# Altium schematic symbol library TH Connectors.SchLib: 74 symbols
Pins are listed as number, name and electrical type; pins without a type are passive.

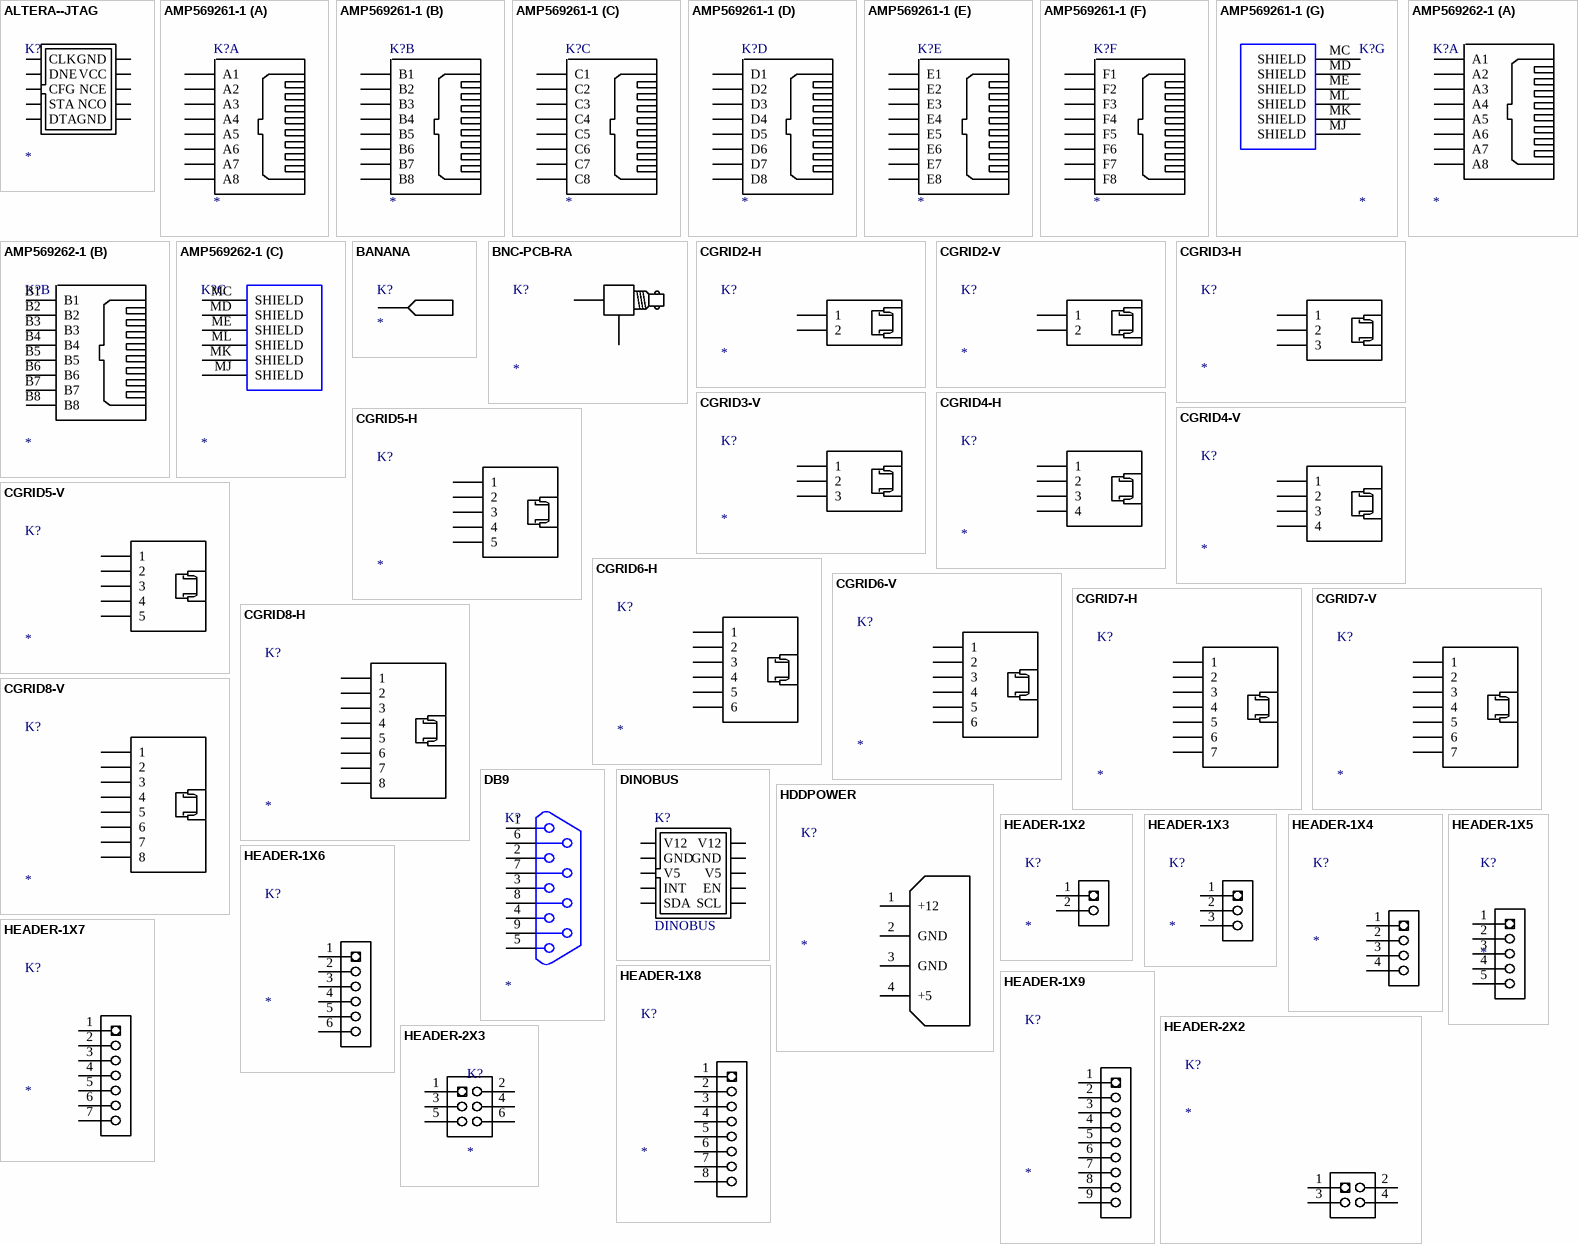
[diagram p0: symbols ALTERA--JTAG to HEADER-2X3]

## ALTERA--JTAG
designator K?
ALTERA 10 PIN JTAG; Manufacturer: Assmann Electronics Inc; Manufacturer Part Number: AWHW10G-0202-T-R; Connector Type: Header, Shrouded; Description: CONN HEADER LOW-PRO 10POS GOLD; Number of Positions: 10; Number of Positions Loaded: All; Pitch: 0.100" (2.54mm); Supplier 1: Digi-Key; Supplier Part Number 1: HRP10H-ND; Supplier: Digi-Key; Contact Type: Male Pin; RoHS: RoHS Compliant; Supplier Part Number: HRP10H-ND; Category: Connectors, Interconnects; Number of Rows: 2; Row Spacing: 0.100" (2.54mm); Contact Mating Length: -; Mounting Type: Through Hole; Termination: Solder; Fastening Type: -; Features: -; Contact Finish: Gold; Contact Finish Thickness: Flash; Color: Gray; Packaging: Tray
footprint IDC10-B
pins: 1 CLK, 2 GND, 3 DNE, 4 VCC, 5 CFG, 6 NCE, 7 STA, 8 NCO, 9 DTA, 10 GND

## AMP569261-1
designator K?
16 X RJ45 SHIELDED STEWART CONNECTOR; Text Field2: SS-73100-047; Text Field3: DIGIKEY; Text Field4: 380-1053-ND; Text Field1: STEWART CONNECTOR; Supplier 1: Digi-Key; Supplier Part Number 1: A31478-ND
footprint AMP569261-1
part A pins: A1, A2, A3, A4, A5, A6, A7, A8
part B pins: B1, B2, B3, B4, B5, B6, B7, B8
part C pins: C1, C2, C3, C4, C5, C6, C7, C8
part D pins: D1, D2, D3, D4, D5, D6, D7, D8
part E pins: E1, E2, E3, E4, E5, E6, E7, E8
part F pins: F1, F2, F3, F4, F5, F6, F7, F8
part G pins: MC SHIELD, MD SHIELD, ME SHIELD, MJ SHIELD, MK SHIELD, ML SHIELD

## AMP569262-1
designator K?
16 X RJ45 SHIELDED STEWART CONNECTOR; Text Field2: SS-73100-047; Text Field3: DIGIKEY; Text Field4: 380-1053-ND; Text Field1: STEWART CONNECTOR
footprint AMP569262-1
part A pins: A1, A2, A3, A4, A5, A6, A7, A8
part B pins: B1, B2, B3, B4, B5, B6, B7, B8
part C pins: MC SHIELD, MD SHIELD, ME SHIELD, MJ SHIELD, MK SHIELD, ML SHIELD

## BANANA
designator K?
BANANA JACK PCB
footprint BANANA
pins: 1, 2

## BNC-PCB-RA
designator K?
BNC CONNECTOR
footprint BNC-RA
pins: 1, 2 gnd, A, B

## CGRID2-H
designator K?
MOLEX GC/WALDOM CGRID CONNECTOR 2 PIN; Supplier 1: Digi-Key; Supplier Part Number 1: WM4900-ND
footprint CGRID-2H
pins: 1, 2

## CGRID2-V
designator K?
MOLEX GC/WALDOM CGRID CONNECTOR 2 PIN; Supplier 1: Digi-Key; Supplier Part Number 1: WM4800-ND
footprint CGRID-2V (Footprint not found)
pins: 1, 2

## CGRID3-H
designator K?
MOLEX GC/WALDOM CGRID CONNECTOR 2 PIN; Supplier 1: Digi-Key; Supplier Part Number 1: WM4901-ND
footprint CGRID-3H (Footprint not found)
pins: 1, 2, 3

## CGRID3-V
designator K?
MOLEX GC/WALDOM CGRID CONNECTOR 2 PIN; Supplier 1: Digi-Key; Supplier Part Number 1: WM4801-ND
footprint CGRID-3V (Footprint not found)
pins: 1, 2, 3

## CGRID4-H
designator K?
MOLEX GC/WALDOM CGRID CONNECTOR 4 PIN; Supplier 1: Digi-Key; Supplier Part Number 1: WM4902-ND
footprint CGRID-4H
pins: 1, 2, 3, 4

## CGRID4-V
designator K?
MOLEX GC/WALDOM CGRID CONNECTOR 4 PIN; Supplier 1: Digi-Key; Supplier Part Number 1: WM4802-ND
footprint CGRID-4V
pins: 1, 2, 3, 4

## CGRID5-H
designator K?
MOLEX GC/WALDOM CGRID CONNECTOR 5 PIN; Supplier 1: Digi-Key; Supplier Part Number 1: WM4903-ND
footprint CGRID-5H
pins: 1, 2, 3, 4, 5

## CGRID5-V
designator K?
MOLEX GC/WALDOM CGRID CONNECTOR 5 PIN; Supplier 1: Digi-Key; Supplier Part Number 1: WM4803-ND
footprint CGRID-5V
pins: 1, 2, 3, 4, 5

## CGRID6-H
designator K?
CONNECTOR 6 PIN HORIZONTAL; Supplier 1: Digi-Key; Supplier Part Number 1: WM4904-ND
footprint CGRID-6H (Footprint not found)
pins: 1, 2, 3, 4, 5, 6

## CGRID6-V
designator K?
CONNECTOR 6 PIN VERTICAL; Supplier 1: Digi-Key; Supplier Part Number 1: WM4804-ND
footprint CGRID-6V (Footprint not found)
pins: 1, 2, 3, 4, 5, 6

## CGRID7-H
designator K?
MOLEX GC/WALDOM CGRID CONNECTOR 7 PIN; Supplier 1: Digi-Key; Supplier Part Number 1: WM4905-ND
footprint CGRID-7H (Footprint not found)
pins: 1, 2, 3, 4, 5, 6, 7

## CGRID7-V
designator K?
MOLEX GC/WALDOM CGRID CONNECTOR 7 PIN; Supplier 1: Digi-Key; Supplier Part Number 1: WM4805-ND
footprint CGRID-7V (Footprint not found)
pins: 1, 2, 3, 4, 5, 6, 7

## CGRID8-H
designator K?
MOLEX GC/WALDOM CGRID CONNECTOR 8 PIN; Supplier 1: Digi-Key; Supplier Part Number 1: WM4906-ND
footprint CGRID-8H (Footprint not found)
pins: 1, 2, 3, 4, 5, 6, 7, 8

## CGRID8-V
designator K?
MOLEX GC/WALDOM CGRID CONNECTOR 8 PIN; Supplier 1: Digi-Key; Supplier Part Number 1: WM4806-ND
footprint CGRID-8V (Footprint not found)
pins: 1, 2, 3, 4, 5, 6, 7, 8

## DB9
designator K?
footprint DB9SLE
pins: 1, 2, 3, 4, 5, 6, 7, 8, 9

## DINOBUS
designator K?
DINOBUS CONNECTOR 10 PIN; Manufacturer: Assmann Electronics Inc; Manufacturer Part Number: AWHW10G-0202-T-R; Connector Type: Header, Shrouded; Description: CONN HEADER LOW-PRO 10POS GOLD; Number of Positions: 10; Number of Positions Loaded: All; Pitch: 0.100" (2.54mm); Supplier 1: Digi-Key; Supplier Part Number 1: HRP10H-ND; Supplier: Digi-Key; Contact Type: Male Pin; RoHS: RoHS Compliant; Supplier Part Number: HRP10H-ND; Category: Connectors, Interconnects; Number of Rows: 2; Row Spacing: 0.100" (2.54mm); Contact Mating Length: -; Mounting Type: Through Hole; Termination: Solder; Fastening Type: -; Features: -; Contact Finish: Gold; Contact Finish Thickness: Flash; Color: Gray; Packaging: Tray
footprint IDC10-B
footprint IDC10-E
pins: 1 V12, 2 V12, 3 GND, 4 GND, 5 V5, 6 V5, 7 INT, 8 EN, 9 SDA, 10 SCL

## HDDPOWER
designator K?
PC power connector; Manufacturer Part Number: 641737-1; Manufacturer: Tyco Electronics; Description: CONN HEADER PIN RT/ANG 4POS TIN; REEL: TH; Supplier 1: Digi-Key; Supplier Part Number 1: A25430-ND
footprint PCPOWER
pins: 1 +12 (power), 2 GND (power), 3 GND (power), 4 +5 (power)

## HEADER-1X2
designator K?
REEL: TH; Supplier 1: Digi-Key; Supplier Part Number 1: S1011E-36-ND
footprint HEADER-1X2
pins: 1, 2

## HEADER-1X3
designator K?
Supplier 1: Digi-Key; Supplier Part Number 1: S1011E-36-ND
footprint HEADER-1X3
pins: 1, 2, 3

## HEADER-1X4
designator K?
Supplier 1: Digi-Key; Supplier Part Number 1: S1011E-36-ND
footprint HEADER-1X4
pins: 1, 2, 3, 4

## HEADER-1X5
designator K?
PINHEADER 1X5; REEL: TH; Supplier 1: Digi-Key; Supplier Part Number 1: S1011E-36-ND
footprint HEADER-1X5
pins: 1, 2, 3, 4, 5

## HEADER-1X6
designator K?
Supplier 1: Digi-Key; Supplier Part Number 1: S1011E-36-ND
footprint HEADER-1X6
pins: 1, 2, 3, 4, 5, 6

## HEADER-1X7
designator K?
Supplier 1: Digi-Key; Supplier Part Number 1: S1011E-36-ND
footprint HEADER-1X7
pins: 1, 2, 3, 4, 5, 6, 7

## HEADER-1X8
designator K?
Supplier 1: Digi-Key; Supplier Part Number 1: S1011E-36-ND
footprint HEADER-1X8
pins: 1, 2, 3, 4, 5, 6, 7, 8

## HEADER-1X9
designator K?
Supplier 1: Digi-Key; Supplier Part Number 1: S1011E-36-ND
footprint HEADER-1X9
pins: 1, 2, 3, 4, 5, 6, 7, 8, 9

## HEADER-2X2
designator K?
footprint HEADER-2X2
pins: 1, 2, 3, 4

## HEADER-2X3
designator K?
footprint HEADER-2X3 (Footprint not found)
pins: 1, 2, 3, 4, 5, 6

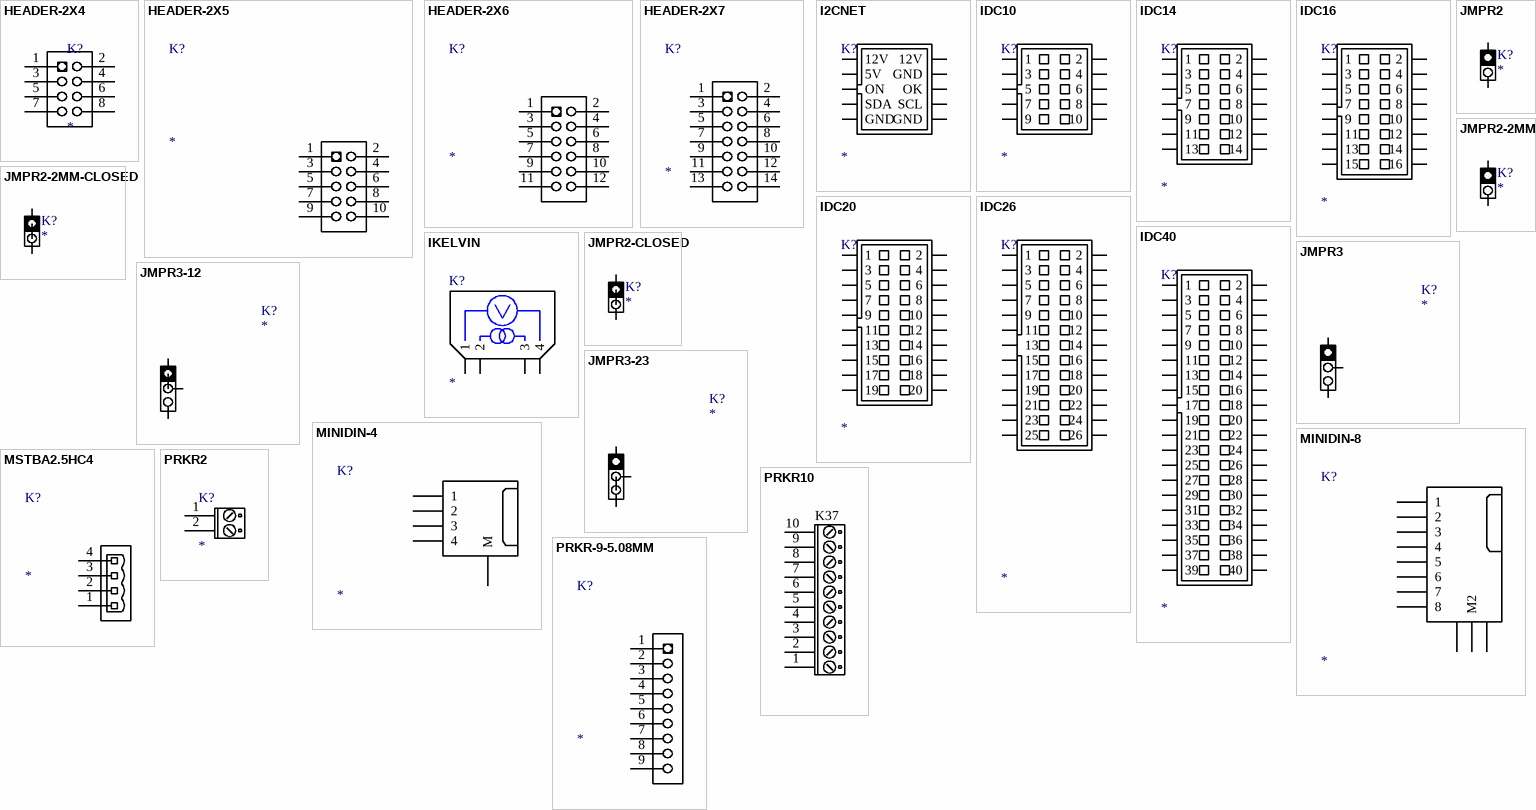
[diagram p1: symbols HEADER-2X4 to PRKR-9-5.08MM]

## HEADER-2X4
designator K?
footprint HEADER-2X4 (Footprint not found)
pins: 1, 2, 3, 4, 5, 6, 7, 8

## HEADER-2X5
designator K?
footprint HEADER-2X5
pins: 1, 2, 3, 4, 5, 6, 7, 8, 9, 10

## HEADER-2X6
designator K?
footprint HEADER-2X6 (Footprint not found)
pins: 1, 2, 3, 4, 5, 6, 7, 8, 9, 10, 11, 12

## HEADER-2X7
designator K?
footprint HEADER-2X7 (Footprint not found)
pins: 1, 2, 3, 4, 5, 6, 7, 8, 9, 10, 11, 12, 13, 14

## I2CNET
designator K?
I2C NET 10 PIN IDC
footprint IDC10-B
footprint IDC10-E
pins: 1 12V, 2 12V, 3 5V, 4 GND, 5 ON, 6 OK, 7 SDA, 8 SCL, 9 GND, 10 GND

## IDC10
designator K?
BOXHEADER 10 PIN; Manufacturer: Assmann Electronics Inc; Manufacturer Part Number: AWHW10G-0202-T-R; Connector Type: Header, Shrouded; Description: CONN HEADER LOW-PRO 10POS GOLD; Number of Positions: 10; Number of Positions Loaded: All; Pitch: 0.100" (2.54mm); Supplier 1: Digi-Key; Supplier Part Number 1: HRP10H-ND; Supplier: Digi-Key; Contact Type: Male Pin; RoHS: RoHS Compliant; Supplier Part Number: HRP10H-ND; Category: Connectors, Interconnects; Number of Rows: 2; Row Spacing: 0.100" (2.54mm); Contact Mating Length: -; Mounting Type: Through Hole; Termination: Solder; Fastening Type: -; Features: -; Contact Finish: Gold; Contact Finish Thickness: Flash; Color: Gray; Packaging: Tray
footprint IDC10-B
footprint IDC10-E
pins: 1, 2, 3, 4, 5, 6, 7, 8, 9, 10

## IDC14
designator K?
BOXHEADER 14 PIN; Manufacturer Part Number: AWHW14G-0202-T-R; Manufacturer: Assmann Electronics Inc; Description: CONN HEADER LOW-PRO 14POS GOLD; Connector Type: Header, Shrouded; Number of Positions Loaded: All; Number of Positions: 14; Pitch: 0.100" (2.54mm); Supplier 1: Digi-Key; Supplier Part Number 1: HRP14H-ND; Category: Connectors, Interconnects; Supplier Part Number: HRP14H-ND; Supplier: Digi-Key; RoHS: RoHS Compliant; Contact Type: Male Pin; Color: Gray; Number of Rows: 2; Mounting Type: Through Hole; Contact Mating Length: -; Features: -; Packaging: Tray; Termination: Solder; Contact Finish Thickness: Flash; Contact Finish: Gold; Fastening Type: -; Row Spacing: 0.100" (2.54mm)
footprint IDC14-B
footprint IDC14-E (idc14 edge soldered)
pins: 1, 2, 3, 4, 5, 6, 7, 8, 9, 10, 11, 12, 13, 14

## IDC16
designator K?
BOXHEADER 16 PIN; Manufacturer Part Number: AWHW16G-0202-T-R; Manufacturer: Assmann Electronics Inc; Number of Positions Loaded: All; Pitch: 0.100" (2.54mm); Description: CONN HEADER LOW-PRO 16POS GOLD; Connector Type: Header, Shrouded; Number of Positions: 16; Supplier 1: Digi-Key; Supplier Part Number 1: HRP16H-ND; Contact Finish Thickness: Flash; Color: Gray; Row Spacing: 0.100" (2.54mm); Termination: Solder; Supplier Part Number: HRP16H-ND; Fastening Type: -; Contact Finish: Gold; Category: Connectors, Interconnects; Contact Type: Male Pin; Features: -; Supplier: Digi-Key; Packaging: Tray; Mounting Type: Through Hole; RoHS: RoHS Compliant; Contact Mating Length: -; Number of Rows: 2
footprint IDC16-B
pins: 1, 2, 3, 4, 5, 6, 7, 8, 9, 10, 11, 12, 13, 14, 15, 16

## IDC20
designator K?
BOXHEADER 20 PIN; Manufacturer: Assmann Electronics Inc; Manufacturer Part Number: AWHW20G-0202-T-R; Description: CONN HEADER LOW-PRO 20POS GOLD; Number of Positions: 20; Number of Positions Loaded: All; Pitch: 0.100" (2.54mm); Connector Type: Header, Shrouded; Supplier 1: Digi-Key; Supplier Part Number 1: HRP20H-ND; Contact Type: Male Pin; Fastening Type: -; Contact Mating Length: -; Contact Finish Thickness: Flash; Number of Rows: 2; RoHS: RoHS Compliant; Category: Connectors, Interconnects; Packaging: Tray; Mounting Type: Through Hole; Contact Finish: Gold; Color: Gray; Features: -; Supplier: Digi-Key; Row Spacing: 0.100" (2.54mm); Supplier Part Number: HRP20H-ND; Termination: Solder
footprint IDC20-B
footprint IDC20-E (IDC20 EDGE SOLDERED)
pins: 1, 2, 3, 4, 5, 6, 7, 8, 9, 10, 11, 12, 13, 14, 15, 16, 17, 18, 19, 20

## IDC26
designator K?
BOXHEADER 26 PIN; Manufacturer: Assmann Electronics Inc; Manufacturer Part Number: AWHW26G-0202-T-R; Pitch: 0.100" (2.54mm); Connector Type: Header, Shrouded; Number of Positions: 26; Number of Positions Loaded: All; Description: CONN HEADER LOW-PRO 26POS GOLD; Supplier 1: Digi-Key; Supplier Part Number 1: HRP26H-ND; RoHS: RoHS Compliant; Supplier: Digi-Key; Number of Rows: 2; Contact Type: Male Pin; Packaging: Tray; Color: Gray; Row Spacing: 0.100" (2.54mm); Contact Finish: Gold; Contact Finish Thickness: Flash; Supplier Part Number: HRP26H-ND; Mounting Type: Through Hole; Contact Mating Length: -; Termination: Solder; Fastening Type: -; Category: Connectors, Interconnects; Features: -
footprint IDC26-B
footprint IDC26-E (IDC26 EDGE SOLDERED)
pins: 1, 2, 3, 4, 5, 6, 7, 8, 9, 10, 11, 12, 13, 14, 15, 16, 17, 18, 19, 20, 21, 22, 23, 24, 25, 26

## IDC40
designator K?
BOXHEADER 40 PIN; Manufacturer: Assmann Electronics Inc; Manufacturer Part Number: AWHW40G-0202-T-R; Description: CONN HEADER LOW-PRO 40POS GOLD; Row Spacing: 0.100" (2.54mm); Connector Type: Header, Shrouded; Number of Positions Loaded: All; Number of Positions: 40; Supplier 1: Digi-Key; Supplier Part Number 1: HRP40H-ND; Supplier: Digi-Key; Color: Gray; Termination: Solder; Contact Type: Male Pin; Features: -; Fastening Type: -; Category: Connectors, Interconnects; Supplier Part Number: HRP40H-ND; Contact Finish Thickness: Flash; RoHS: RoHS Compliant; Mounting Type: Through Hole; Contact Mating Length: -; Contact Finish: Gold; Packaging: Tray; Pitch: 0.100" (2.54mm); Number of Rows: 2
footprint IDC40-B (Footprint not found)
pins: 1, 2, 3, 4, 5, 6, 7, 8, 9, 10, 11, 12, 13, 14, 15, 16, 17, 18, 19, 20, 21, 22, 23, 24, 25, 26, 27, 28, 29, 30, 31, 32, 33, 34, 35, 36, 37, 38, 39, 40

## IKELVIN
designator K?
KELVIN CONTACT
footprint JMPR2X2
pins: 1, 2, 3, 4

## JMPR2
designator K?
JMPR2 OPEN BY DEFAULT; Manufacturer: Sullins Connector Solutions; Manufacturer Part Number: PBC36SAAN; Description: CONN HEADER .100 SINGL STR 36POS; Supplier 1: Digi-Key; Supplier Part Number 1: S1011E-36-ND; Reel: Open
footprint JMPR2
pins: 1, 2
2 alternate drawings of the same symbol

## JMPR2-2MM
designator K?
JMPR2 2MM OPEN BY DEFAULT; Manufacturer: Sullins Connector Solutions; Manufacturer Part Number: PBC36SAAN; Description: CONN HEADER .100 SINGL STR 36POS; Supplier 1: Digi-Key; Supplier Part Number 1: S1011E-36-ND; Reel: Open
footprint JMPR2-2MM (2 PIN JUMPER 2MM PITCH)
pins: 1, 2
2 alternate drawings of the same symbol

## JMPR2-2MM-CLOSED
designator K?
JMPR2 2MM PITCH CLOSED BY DEAFULT; Manufacturer: Sullins Connector Solutions; Manufacturer Part Number: PBC36SAAN; Description: CONN HEADER .100 SINGL STR 36POS; Supplier 1: Digi-Key; Supplier Part Number 1: S1011E-36-ND; Reel: Closed
footprint JMPR2-2mm-CLOSED (2 PIN JUMPER 2MM PITCH)
pins: 1, 2
2 alternate drawings of the same symbol

## JMPR2-CLOSED
designator K?
JMPR2 CLOSED BY DEFAULT; Manufacturer: Sullins Connector Solutions; Manufacturer Part Number: PBC36SAAN; Description: CONN HEADER .100 SINGL STR 36POS; Supplier 1: Digi-Key; Supplier Part Number 1: S1011E-36-ND; Reel: Closed
footprint JMPR2-CLOSED
pins: 1, 2
2 alternate drawings of the same symbol

## JMPR3
designator K?
JMPR3; Manufacturer: Sullins Connector Solutions; Manufacturer Part Number: PBC36SAAN; Description: CONN HEADER .100 SINGL STR 36POS; Reel: Open; Supplier 1: Digi-Key; Supplier Part Number 1: S1011E-36-ND
footprint JMPR3
pins: 1, 2, 3

## JMPR3-12
designator K?
JMPR3; Manufacturer: Sullins Connector Solutions; Manufacturer Part Number: PBC36SAAN; Description: CONN HEADER .100 SINGL STR 36POS; Reel: Closed 1-2; Supplier 1: Digi-Key; Supplier Part Number 1: S1011E-36-ND
footprint JMPR3-CLOSED-12
pins: 1, 2, 3

## JMPR3-23
designator K?
JMPR3; Manufacturer: Sullins Connector Solutions; Manufacturer Part Number: PBC36SAAN; Description: CONN HEADER .100 SINGL STR 36POS; Reel: Closed 2-3; Supplier 1: Digi-Key; Supplier Part Number 1: S1011E-36-ND
footprint JMPR3-CLOSED-23
pins: 1, 2, 3

## MINIDIN-4
designator K?
MINIDIN 4 PIN; Text Field1: CUI; Text Field2: MD-40SG; Text Field3: DIGIKEY; Text Field4: CP5040-ND
pins: 1, 2, 3, 4, M, N, O

## MINIDIN-8
designator K?
MINIDIN 8 PIN; Text Field1: CUI; Text Field2: MD-40SG; Text Field3: DIGIKEY; Text Field4: CP5040-ND
pins: 1, 2, 3, 4, 5, 6, 7, 8, M1, M2, M3

## MSTBA2.5HC4
designator K?
PHOENIX CONTACT MSTBA 2.5 HC 4 G 5.08
footprint PRKR4A
pins: 1, 2, 3, 4

## PRKR2
designator K?
SCREW TERMINAL 5MM
footprint PRKR2
pins: 1, 2

## PRKR10
designator K37
footprint PRKR10-3.8MM
footprint PRKR10-3.8MM
pins: 1, 2, 3, 4, 5, 6, 7, 8, 9, 10

## PRKR-9-5.08MM
designator K?
Supplier 1: Digi-Key; Supplier Part Number 1: S1011E-36-ND
footprint PRKR-9-5.08MM
pins: 1, 2, 3, 4, 5, 6, 7, 8, 9

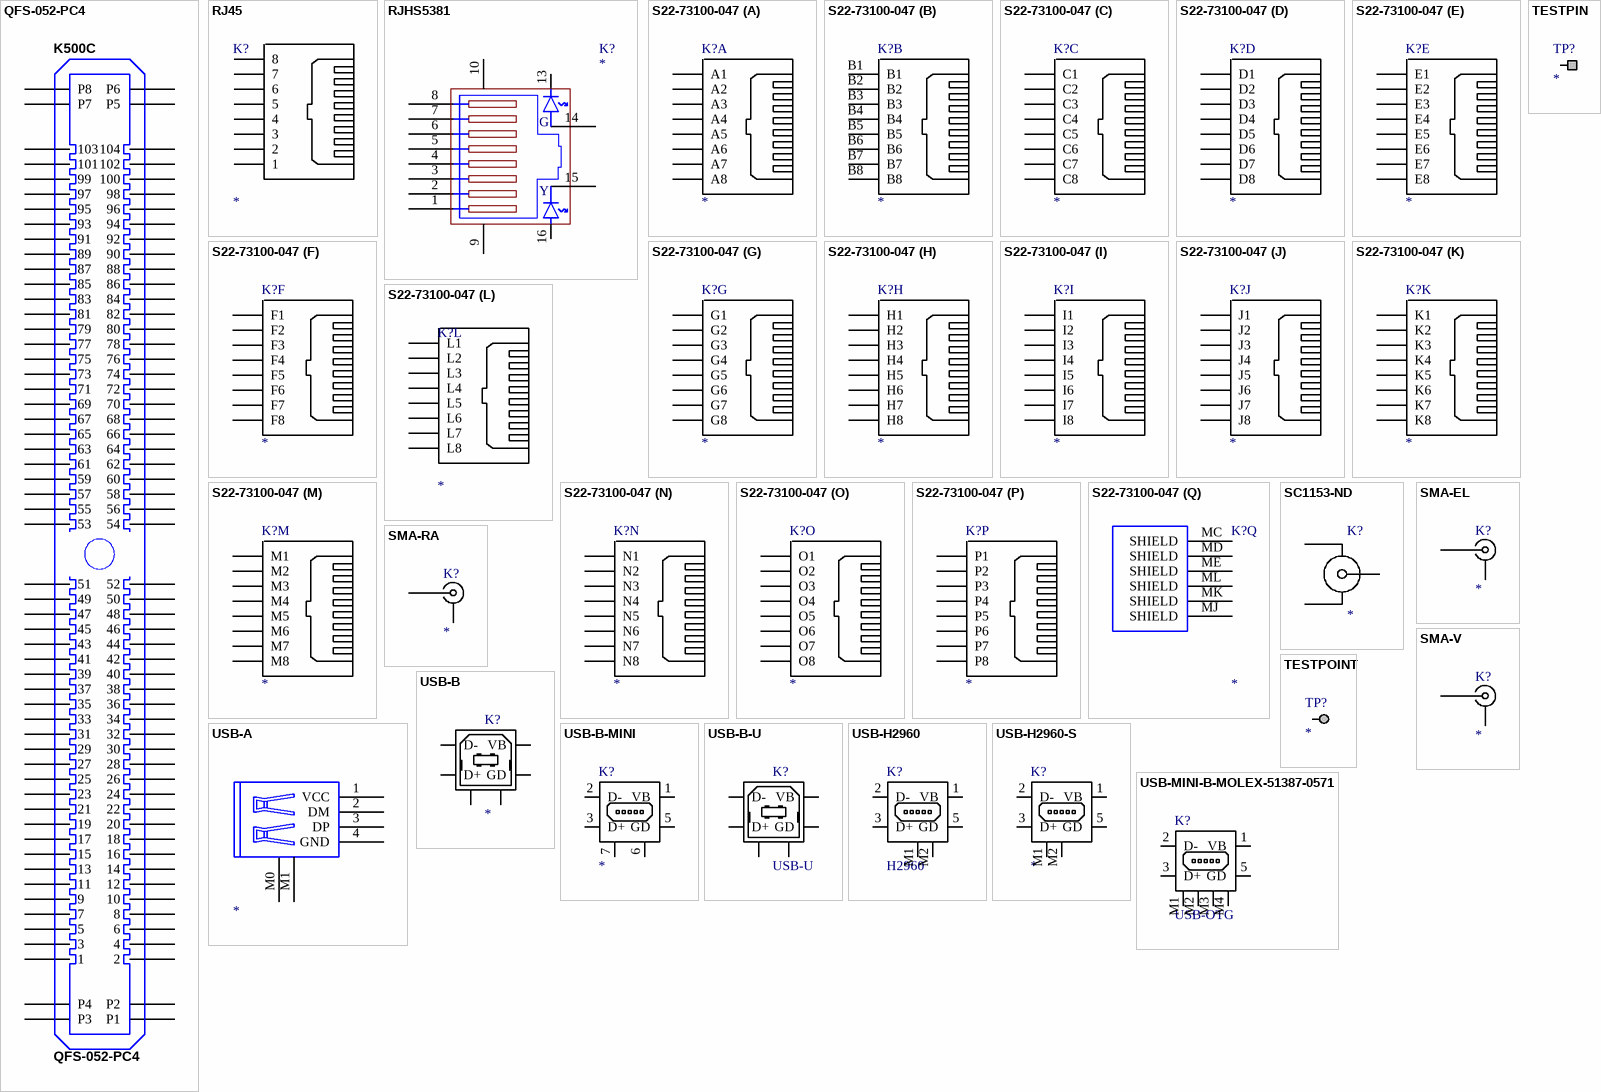
[diagram p2: symbols QFS-052-PC4 to USB-MINI-B-MOLEX-51387-0571]

## QFS-052-PC4
designator K500C
SAMTEC BOARD TO BOARD CONNECTOR; Part Field 1: QFS-052-01-X-D-PC4; REEL: TH; Part Field 2: QFS-052-01-L-D-PC4; Part Field 3: SAMTEC; Part Field 4: QFS-052-01-L-D-PC4; Part Field 5: CONNECTOR
footprint QFS-052-01-X-D-PC4
pins: 1, 2, 3, 4, 5, 6, 7, 8, 9, 10, 11, 12, 13, 14, 15, 16, 17, 18, 19, 20, 21, 22, 23, 24, 25, 26, 27, 28, 29, 30, 31, 32, 33, 34, 35, 36, 37, 38, 39, 40, 41, 42, 43, 44, 45, 46, 47, 48, 49, 50, 51, 52, 53, 54, 55, 56, 57, 58, 59, 60, 61, 62, 63, 64, 65, 66, 67, 68, 69, 70, 71, 72, 73, 74, 75, 76, 77, 78, 79, 80, 81, 82, 83, 84, 85, 86, 87, 88, 89, 90, 91, 92, 93, 94, 95, 96, 97, 98, 99, 100, 101, 102, 103, 104, P1, P2, P3, P4, P5, P6, P7, P8

## RJ45
designator K?
RJ45; Text Field1: STEWART CONNECTOR; Text Field2: SS-73100-047; Text Field3: DIGIKEY; Text Field4: 380-1053-ND
footprint RJ45-8/8
pins: 1, 2, 3, 4, 5, 6, 7, 8

## RJHS5381
designator K?
Connector, RJ45 with Leds, (Ethernet), Thru-Hole
footprint RJHS5381
pins: 1, 2, 3, 4, 5, 6, 7, 8, 9, 10, 13, 14, 15, 16
text: G; Y

## S22-73100-047
designator K?
16 X RJ45 SHIELDED STEWART CONNECTOR; Text Field2: SS-73100-047; Text Field3: DIGIKEY; Text Field4: 380-1053-ND; Text Field1: STEWART CONNECTOR
footprint SS-73100-047
part A pins: A1, A2, A3, A4, A5, A6, A7, A8
part B pins: B1, B2, B3, B4, B5, B6, B7, B8
part C pins: C1, C2, C3, C4, C5, C6, C7, C8
part D pins: D1, D2, D3, D4, D5, D6, D7, D8
part E pins: E1, E2, E3, E4, E5, E6, E7, E8
part F pins: F1, F2, F3, F4, F5, F6, F7, F8
part G pins: G1, G2, G3, G4, G5, G6, G7, G8
part H pins: H1, H2, H3, H4, H5, H6, H7, H8
part I pins: I1, I2, I3, I4, I5, I6, I7, I8
part J pins: J1, J2, J3, J4, J5, J6, J7, J8
part K pins: K1, K2, K3, K4, K5, K6, K7, K8
part L pins: L1, L2, L3, L4, L5, L6, L7, L8
part M pins: M1, M2, M3, M4, M5, M6, M7, M8
part N pins: N1, N2, N3, N4, N5, N6, N7, N8
part O pins: O1, O2, O3, O4, O5, O6, O7, O8
part P pins: P1, P2, P3, P4, P5, P6, P7, P8
part Q pins: MC SHIELD, MD SHIELD, ME SHIELD, MJ SHIELD, MK SHIELD, ML SHIELD

## SC1153-ND
designator K?
Connector, Power Jack, Mini .08", Right Angle, Thru-Hole; Manufacturer Part Number: RAPC722; Manufacturer: Switchcraft Inc.; Number of Positions/Contacts: 2 Conductors, 2 Contacts; Description: CONNN POWERJACK MINI.08" RA PCMT; Internal Switch(s): Single Switch, Normally Closed; Plug/Mating Plug Diameter: 2.1mm ID, 5.5mm OD; Gender: Male; Shielding: Unshielded; Mounting Type: Through Hole, Right Angle; Color: Black; RoHS: RoHS non-compliant; Connector Type: Jack; Features: -; Signal Lines: -; Supplier: Digi-Key; Termination: Solder Eyelet(s); Category: Connectors, Interconnects; REEL: *; Supplier 1: Digi-Key; Supplier Part Number: SC1153-ND; Supplier Part Number 1: SC1153-ND
footprint DCPOWER
pins: 1, 2, 3

## SMA-EL
designator K?
SMA THREADED RF CONNECTOR VERTICAL
footprint SMA-ENDLAUNCH
pins: 1, 2, 3, 4, 5

## SMA-RA
designator K?
SMA THREADED RF CONNECTOR VERTICAL
footprint SMA-RA
pins: 1, 2, 3, 4, 5

## SMA-V
designator K?
SMA THREADED RF CONNECTOR VERTICAL
footprint SMA-V
pins: 1, 2, 3, 4, 5

## TESTPIN
designator TP?
TESTPIN SINGLE PIN HEADER; Manufacturer 1: Sharon Long Industries; Manufacturer Part Number 1: Cut-it-yourself; Reel: TH; Description: Single pin header; Supplier 1: Sharon Long Industries; Supplier 1 Part number: Cut-It-Yourself
footprint TESTPIN
pins: 1

## TESTPOINT
designator TP?
TESTPOINT SCOPE GRABBER; Manufacturer Part Number: 5010; Manufacturer: Keystone Electronics; Description: TEST POINT PC MULTI PURPOSE RED; Reel: TH; Supplier 1: Digi-Key; Supplier Part Number 1: 5010K-ND
footprint TESTPOINT
pins: 1

## USB-A
designator ?
USB A HOST CONNECTOR
pins: 1 VCC, 2 DM, 3 DP, 4 GND, M0, M1

## USB-B
designator K?
USB B DEVICE CONNECTOR; Text Field1: Assmann; Text Field2: AU-Y1007; Text Field3: Digi-Key; Text Field4: AE1085-ND; Text Field5: Thru-Hole; Text Field6: 1.168; NI?: *; O?: *; Section:: *
footprint USB-B
pins: 1 VB, 2 D-, 3 D+, 4 GD, 5, 6

## USB-B-MINI
designator K?
MINI USB B DEVICE CONNECTOR
footprint USB-MINI-B
pins: 1 VB, 2 D-, 3 D+, 5 GD, 6, 7

## USB-B-U
designator K?, comment USB-U
USB B DEVICE CONNECTOR
footprint USB-B-U
pins: 1 VB, 2 D-, 3 D+, 4 GD, 5, 6

## USB-H2960
designator K?, comment H2960
MINI USB B DEVICE CONNECTOR
footprint usb-mini-b
pins: 1 VB, 2 D-, 3 D+, 5 GD, M1, M2

## USB-H2960-S
designator K?
MINI USB B DEVICE CONNECTOR
pins: 1 VB, 2 D-, 3 D+, 5 GD, M1, M2

## USB-MINI-B-MOLEX-51387-0571
designator K?, comment USB-OTG
MINI USB B DEVICE CONNECTOR MOLEX 51387-0571; Supplier 1: Digi-Key; Supplier Part Number 1: WM5462DKR-ND
footprint USB-MINI-B-51387-0571 (MOLEX 51387-0571)
pins: 1 VB, 2 D-, 3 D+, 5 GD, M1, M2, M3, M4